# EAGLE library part BQ27210 (library texas_ffmc)
Li-Ion AND Li-Pol BATTERY GAS GAUGE IC FOR PORTABLE APPLICATIONS I2C Communication (bqJUNIOR) Source: www.ti.com .. bq27010.pdf
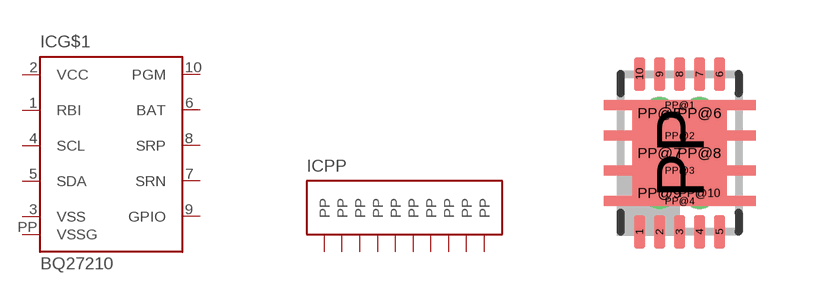
[diagram p57: symbol with the pads of DRK_S-PDSO-N10; footprint DRK_S-PDSO-N10]

Designator prefix IC; gates PP=PWR-PP10 G$1=BQ27210

## BQ27210 (MPN: BQ27210DRKR; OC_FARNELL: 1534540; OC_NEWARK: 30M3431)  [DRK_S-PDSO-N10]
1  G$1:RBI  in
2  G$1:VCC  in
3  G$1:VSS  in
4  G$1:SCL  in
5  G$1:SDA
6  G$1:BAT  in
7  G$1:SRN  in
8  G$1:SRP  in
9  G$1:GPIO
10  G$1:PGM  in
PP  G$1:VSSG  in
PP@1  PP:PP  pwr
PP@2  PP:PP  pwr
PP@3  PP:PP  pwr
PP@4  PP:PP  pwr
PP@5  PP:PP  pwr
PP@6  PP:PP  pwr
PP@7  PP:PP  pwr
PP@8  PP:PP  pwr
PP@9  PP:PP  pwr
PP@10  PP:PP  pwr

## Footprint DRK_S-PDSO-N10 (pad centres in mm)
DRK (S-PDSO-N10) Source: www.ti.com .. bq27010.pdf
smd 0.28 x 0.85: 1 -1,-1.975; 2 -0.5,-1.975; 3 0,-1.975; 4 0.5,-1.975; 5 1,-1.975; 6 1,1.975; 7 0.5,1.975; 8 0,1.975; 9 -0.5,1.975; 10 -1,1.975
smd 2.35 x 2.65: PP 0,0
smd 3.8 x 0.25: PP@1 0,1.2; PP@2 0,0.435; PP@3 0,-0.435; PP@4 0,-1.2
drill 0.3 pad 0.5: PP@5 -0.5,1; PP@6 0.5,1; PP@7 -0.5,0; PP@8 0.5,0; PP@9 -0.5,-1; PP@10 0.5,-1